# Altium schematic symbol library AirQualityMonitor.SchLib: 50 symbols (part 2 of 2)
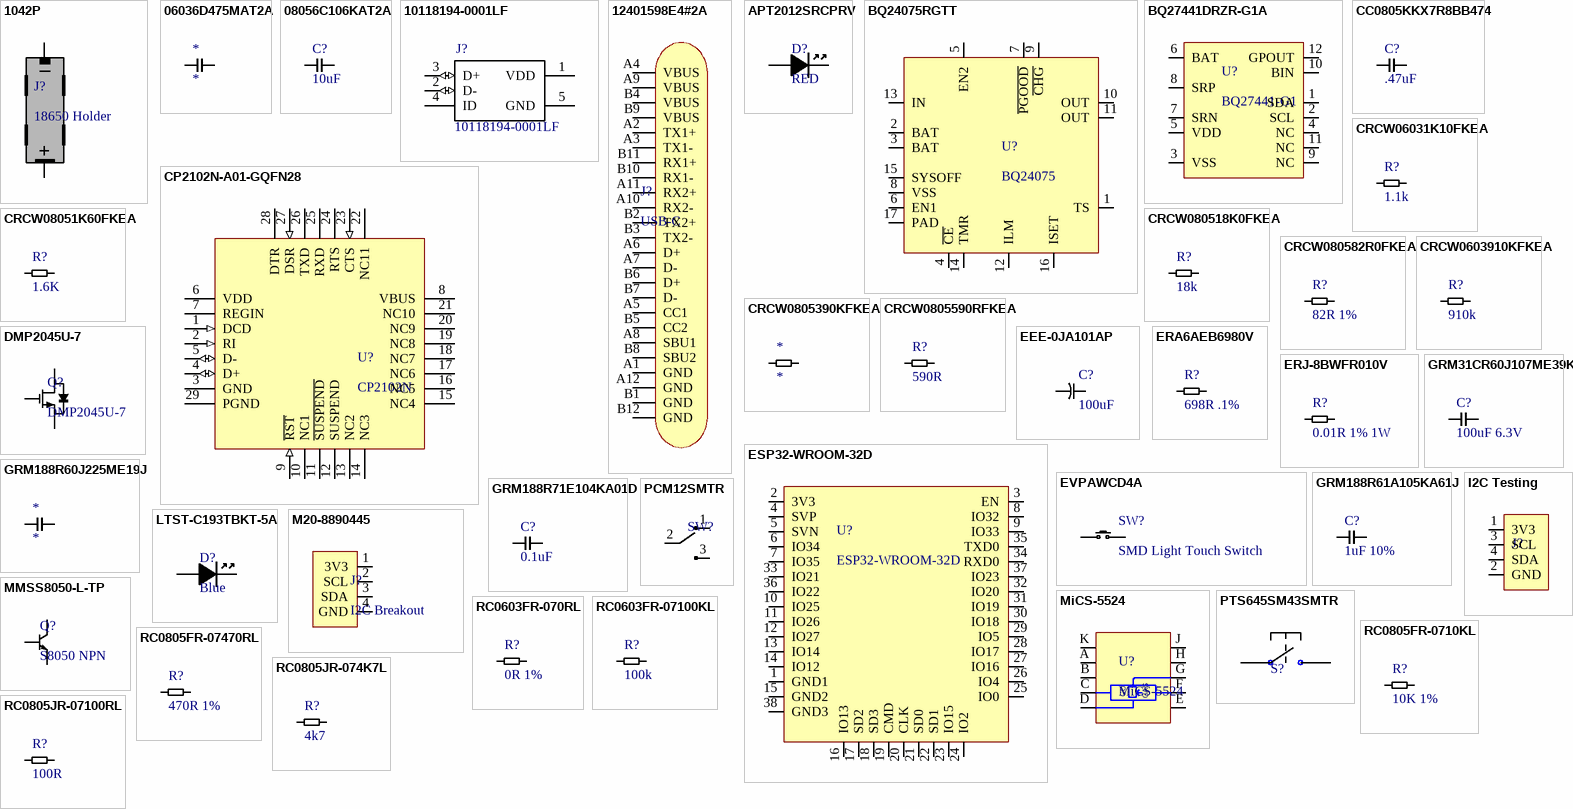
[diagram p2: symbols 1042P to RC0805JR-07100RL]

## RC0603FR-07100KL
designator R?, comment 100k
YAGEO         RC0603FR-07100KL             RES, THICK FILM, 100K, 1%, 0.1W, 0603; Resistance: 100kR; Power Rating: 100mW; Voltage Rating: 50V; Temperature Coefficient: 100ppm/°C; Working Voltage: 75V; Supplier 1: Mouser; Supplier Part Number 1: 603-RC0603FR-07100KL; Manufacturer: Yageo; Manufacturer Part Number: RC0603FR-07100KL; Stock 1: 667937; Pricing 1: 1=0.1, 10=0.018, 50=0.018, 100=0.006, 1000=0.005, 10000=0.003 (USD); Case/Package: 0603; Number of Pins: 2; Case Code (Imperial): 0603; Case Code (Metric): 1608; Min Operating Temperature: -55°C; Max Operating Temperature: 155°C; Tolerance: 1%; Packaging: Tape and Reel; Termination: SMD/SMT; Composition: Thick Film; Military Standard: Not; Number of Terminations: 2; Voltage Rating (DC): 50V; Length: 1.6mm; Height: 0.45mm; Width: 0.8mm; Depth: 0.8mm; REACH SVHC: No SVHC; Lead Free: Lead Free; ComponentLink1URL: http://www.farnell.com/datasheets/2167052.pdf; ComponentLink1Description: http://www.farnell.com/datasheets/2167052.pdf; ComponentLink2URL: http://www.farnell.com/datasheets/1868787.pdf; ComponentLink2Description: http://www.farnell.com/datasheets/1868787.pdf; ComponentLink3URL: http://www.farnell.com/datasheets/1738695.pdf; ComponentLink3Description: http://www.farnell.com/datasheets/1738695.pdf; ComponentLink4URL: http://documents.rs-components.com/techlib://itc_doclist_GB.htm?stockno=5048940; ComponentLink4Description: http://documents.rs-components.com/techlib://itc_doclist_GB.htm?stockno=5048940; ComponentLink5URL: http://www.farnell.com/datasheets/443971.pdf; ComponentLink5Description: http://www.farnell.com/datasheets/443971.pdf
footprint 0603RES
pins: 1, 2

## RC0805FR-0710KL
designator R?, comment 10K 1%
RES SMD 10K OHM 1% 1/8W 0805; Manufacturer: Yageo; Manufacturer Part Number: RC0805FR-0710KL; Resistance: 10kR; Power Rating: 125mW; Voltage Rating: 150V; Temperature Coefficient: 100ppm/°C; Supplier 1: Digi-Key; Supplier Part Number 1: 311-10.0KCRDKR-ND; Stock 1: 50767607; Pricing 1: 1=0.1, 10=0.046, 100=0.0186, 1000=0.00835, 2500=0.00725 (USD); Case/Package: 0805; Case Code (Imperial): 0805; Case Code (Metric): 2012; Min Operating Temperature: -55°C; Max Operating Temperature: 155°C; Packaging: Tape and Reel; Tolerance: 1%; Termination: SMD/SMT; Package Quantity: 1; Composition: Thick Film; Military Standard: Not; Max Power Dissipation: 125mW; Number of Terminations: 2; Features: Moisture Resistant; Length: 2mm; Height: 0.024inch; Depth: 1.25mm; Width: 0.049inch; REACH SVHC: Unknown; Lead Free: Lead Free; ComponentLink1URL: http://www.yageo.com/documents/recent/PYu-RC_Group_51_RoHS_L_9.pdf; ComponentLink1Description: http://www.yageo.com/documents/recent/PYu-RC_Group_51_RoHS_L_9.pdf; ComponentLink2URL: http://www.farnell.com/datasheets/444164.pdf; ComponentLink2Description: http://www.farnell.com/datasheets/444164.pdf; ComponentLink3URL: http://www.yageo.ru/pdf/RC0805.pdf; ComponentLink3Description: http://www.yageo.ru/pdf/RC0805.pdf
footprint 0805RES
pins: 1, 2

## RC0805FR-07470RL
designator R?, comment 470R 1%
RES SMD 470 OHM 1% 1/8W 0805; Manufacturer: Yageo; Manufacturer Part Number: RC0805FR-07470RL; Power Rating: 125mW; Voltage Rating: 150V; Temperature Coefficient: 100ppm/°C; Supplier 1: Digi-Key; Supplier Part Number 1: 311-470CRDKR-ND; Stock 1: 2436062; Pricing 1: 1=0.1, 10=0.046, 100=0.0186, 1000=0.00835, 2500=0.00725 (USD); Case/Package: 0805; Number of Pins: 2; Case Code (Metric): 2012; Case Code (Imperial): 0805; Min Operating Temperature: -55°C; Max Operating Temperature: 155°C; Resistance: 470R; Tolerance: 1%; Packaging: Tape and Reel; Composition: Thick Film; Voltage Rating (DC): 150V; Military Standard: Not; Max Power Dissipation: 125mW; Package Quantity: 1; Termination: SMD/SMT; Number of Terminations: 2; Features: Moisture Resistant; Length: 2mm; Height: 0.5mm; Depth: 1.25mm; Width: 1.25mm; Lead Pitch: 0.4mm; REACH SVHC: Unknown; Lead Free: Lead Free; ComponentLink1URL: http://www.yageo.com/documents/recent/PYu-RC_Group_51_RoHS_L_9.pdf; ComponentLink1Description: http://www.yageo.com/documents/recent/PYu-RC_Group_51_RoHS_L_9.pdf; ComponentLink2URL: http://www.farnell.com/datasheets/444164.pdf; ComponentLink2Description: http://www.farnell.com/datasheets/444164.pdf; ComponentLink3URL: http://documents.rs-components.com/techlib://itc_doclist_GB.htm?stockno=6182546; ComponentLink3Description: http://documents.rs-components.com/techlib://itc_doclist_GB.htm?stockno=6182546; ComponentLink4URL: http://www.yageo.ru/pdf/RC0805.pdf; ComponentLink4Description: http://www.yageo.ru/pdf/RC0805.pdf
footprint 0805RES
pins: 1, 2

## RC0805JR-074K7L
designator R?, comment 4k7
YAGEO         RC0805JR-074K7L             RES, THICK FILM, 4K7, 5%, 0.125W, 0805; Resistance: 4.7kR; Temperature Coefficient: 100ppm/°C; Power Rating: 125mW; Voltage Rating: 150V; Supplier 1: Digi-Key; Supplier Part Number 1: 311-4.7KARDKR-ND; Manufacturer: Yageo; Manufacturer Part Number: RC0805JR-074K7L; Stock 1: 4671769; Pricing 1: 1=0.1, 10=0.036, 100=0.0146, 1000=0.00654, 2500=0.00568 (USD); Case/Package: Molded; Contact Plating: Lead,Matte,Tin; Case Code (Imperial): 0805; Case Code (Metric): 2012; Min Operating Temperature: -55°C; Max Operating Temperature: 155°C; Tolerance: 5%; Packaging: Tape and Reel; Composition: Thick Film; Termination: SMD/SMT; Military Standard: Not; Length: 2mm; Depth: 1.25mm; Radiation Hardening: No; REACH SVHC: Unknown; Lead Free: Lead Free; ComponentLink1URL: http://www.farnell.com/datasheets/442941.pdf; ComponentLink1Description: http://www.farnell.com/datasheets/442941.pdf; ComponentLink2URL: http://www.yageo.ru/pdf/RC0805.pdf; ComponentLink2Description: http://www.yageo.ru/pdf/RC0805.pdf; ComponentLink3URL: http://www.mouser.com/ds/2/447/Yageo_08112016_RC0805-968729.pdf; ComponentLink3Description: http://www.mouser.com/ds/2/447/Yageo_08112016_RC0805-968729.pdf
footprint 0805RES
pins: 1, 2

## RC0805JR-07100RL
designator R?, comment 100R
RES, THICK FILM, 100R, 5%, 0.125W, 0805; Manufacturer: Yageo; Manufacturer Part Number: RC0805JR-07100RL; Power Rating: 125mW; Voltage Rating: 150V; Temperature Coefficient: 100ppm/°C; Supplier 1: Mouser; Supplier Part Number 1: 603-RC0805JR-07100RL; Stock 1: 497207; Pricing 1: 1=0.11, 10=0.026, 50=0.026, 100=0.009, 1000=0.007, 10000=0.004 (USD); Case/Package: 0805; Case Code (Imperial): 0805; Case Code (Metric): 2012; Contact Plating: Lead,Matte,Tin; Min Operating Temperature: -55°C; Max Operating Temperature: 155°C; Tolerance: 5%; Resistance: 100R; Packaging: Tape and Reel; Termination: SMD/SMT; Composition: Thick Film; Radiation Hardening: No; REACH SVHC: Unknown; Lead Free: Lead Free; ComponentLink1URL: http://www.farnell.com/datasheets/444164.pdf; ComponentLink1Description: http://www.farnell.com/datasheets/444164.pdf; ComponentLink2URL: http://www.farnell.com/datasheets/2167052.pdf; ComponentLink2Description: http://www.farnell.com/datasheets/2167052.pdf; ComponentLink3URL: http://www.farnell.com/datasheets/442941.pdf; ComponentLink3Description: http://www.farnell.com/datasheets/442941.pdf; ComponentLink4URL: http://www.yageo.ru/pdf/RC0805.pdf; ComponentLink4Description: http://www.yageo.ru/pdf/RC0805.pdf
footprint 0805RES
pins: 1, 2

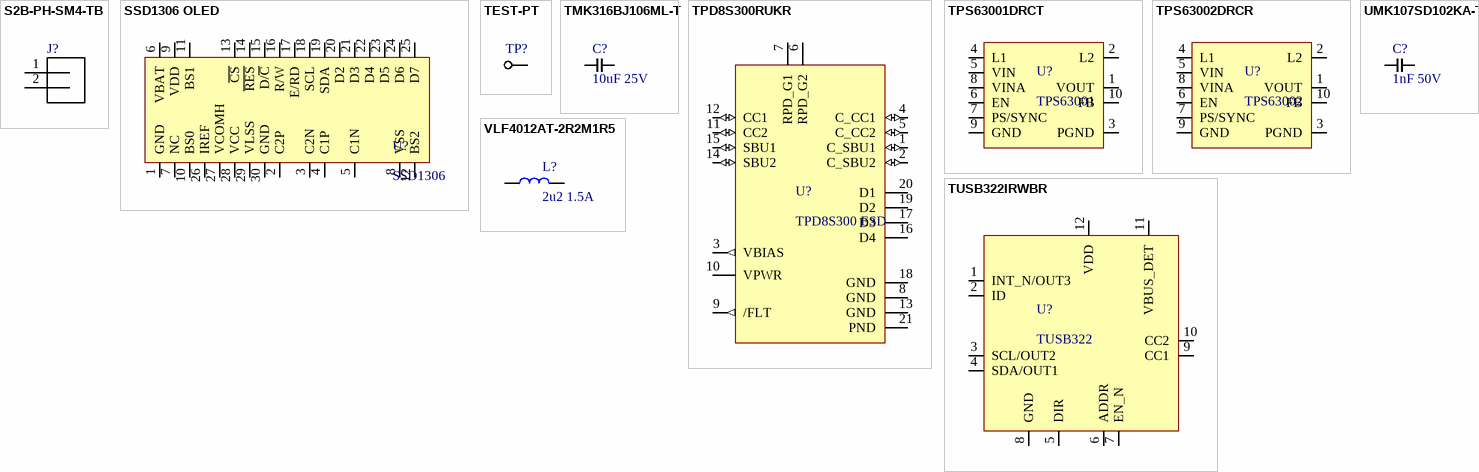
[diagram p1: symbols S2B-PH-SM4-TB to VLF4012AT-2R2M1R5]

## S2B-PH-SM4-TB
designator J?  (value not drawn)
Socket; wire-board; male; PIN: 2; 2mm; SMT; PH; 100V; 2A; -25Ã·85Â°C; MF: JST; Package: None; MP: S2B-PH-SM4-TB; Price: None; Availability: Unavailable; SnapEDA_Link: https://www.snapeda.com/parts/S2B-PH-SM4-TB/JST/view-part/?ref=snap; Value: *
footprint JST_S2B-PH-SM4-TB
pins: 1, 2

## SSD1306 OLED
designator U?, comment SSD1306
ComponentLink1Description: Reference Schematic; ComponentLink1URL: https://cdn.sparkfun.com/datasheets/LCD/Monochrome/Micro-OLED-Breakout.pdf; ComponentLink2Description: Github; ComponentLink2URL: https://github.com/sparkfun/Micro_OLED_Breakout; ComponentLink3Description: Datasheet; ComponentLink3URL: https://cdn.sparkfun.com/assets/learn_tutorials/3/0/8/SSD1306.pdf
footprint SSD1306 (OLED Display 128x64)
pins: 1 GND, 2 C2P, 3 C2N, 4 C1P, 5 C1N, 6 VBAT, 7 NC, 8 VSS, 9 VDD, 10 BS0, 11 BS1, 12 BS2, 13 ~{CS}, 14 ~{RES}, 15 D/~{C}, 16 R/W, 17 E/RD, 18 SCL, 19 SDA, 20 D2, 21 D3, 22 D4, 23 D5, 24 D6, 25 D7, 26 IREF, 27 VCOMH, 28 VCC, 29 VLSS, 30 GND

## TEST-PT
designator TP?
footprint Test point
pins: 1

## TMK316BJ106ML-T
designator C?, comment 10uF 25V
CAP CER 10UF 25V X5R 1206; Manufacturer: Taiyo Yuden; Manufacturer Part Number: TMK316BJ106ML-T; Tolerance: 10%; Supplier 1: Digi-Key; Supplier Part Number 1: 587-2259-6-ND; Stock 1: 0; Pricing 1: 1=0.34, 10=0.236, 100=0.1339, 500=0.09454, 1000=0.08271 (USD); Mount: Surface Mount; Case/Package: 1206; Number of Pins: 2; Case Code (Imperial): 1206; Case Code (Metric): 3216; Contact Plating: Nickel; Min Operating Temperature: -55°C; Max Operating Temperature: 85°C; Capacitance: 10uF; Packaging: Tape and Reel; Voltage Rating: 25V; Package Quantity: 1; Voltage Rating (DC): 25V; Termination: SMD/SMT; Voltage: 25V; Dielectric: X5R; Composition: Ceramic; Length: 3.2mm; Height: 1.6mm; Width: 1.6mm; Depth: 1.6mm; Thickness: 0.071inch; Radiation Hardening: No; REACH SVHC: Unknown; Lead Free: Lead Free; Halogen Free: Halogen Free; ComponentLink1URL: https://www.yuden.co.jp/productdata/catalog/mlcc01_e.pdf; ComponentLink1Description: https://www.yuden.co.jp/productdata/catalog/mlcc01_e.pdf; ComponentLink2URL: http://www.farnell.com/datasheets/1481447.pdf; ComponentLink2Description: http://www.farnell.com/datasheets/1481447.pdf; ComponentLink3URL: http://www.farnell.com/datasheets/746258.pdf; ComponentLink3Description: http://www.farnell.com/datasheets/746258.pdf
footprint 1206MLCC
pins: 1, 2

## TPD8S300RUKR
designator U?, comment TPD8S300 ESD
SURGE SUPP 8VC 2-CIRCUIT 20WQFN; Manufacturer: Texas Instruments; Manufacturer Part Number: TPD8S300RUKR; Capacitance: 1.5pF; Interface: USB; Supplier 1: Mouser; Supplier Part Number 1: 595-TPD8S300RUKR; Stock 1: 24813; Pricing 1: 1=2.56, 10=2.17, 50=2.17, 100=1.74, 1000=1.26, 10000=1.13 (USD); Min Operating Temperature: -40°C; Max Operating Temperature: 125°C; Lead Free: Lead Free; ComponentLink1Description: Datasheet; ComponentLink1URL: http://www.ti.com/lit/ds/symlink/tpd8s300.pdf
footprint QFN40P300X300X80-21N
pins: 1 C_SBU1 (io), 2 C_SBU2 (io), 3 VBIAS (out), 4 C_CC1 (io), 5 C_CC2 (io), 6 RPD_G2, 7 RPD_G1, 8 GND, 9 /FLT (out), 10 VPWR, 11 CC2 (io), 12 CC1 (io), 13 GND, 14 SBU2 (io), 15 SBU1 (io), 16 D4, 17 D3, 18 GND, 19 D2, 20 D1, 21 PND

## TPS63001DRCT
designator U?, comment TPS63001
Conv DC-DC Single Non-Inv/Inv/Step Up/Step Down 1.8V to 5.5V 10-Pin VSON EP T/R; Manufacturer: Texas Instruments; Manufacturer Part Number: TPS63001DRCT; Number of Outputs: 1; Output Voltage: 3.3V; Efficiency: 96%; Output Current: 1.2A; Switching Frequency: 1.5MHz; Synchronous Rectifier: Yes; Quiescent Current: 30uA; Topology: Buck-Boost; Output Type: Fixed; Output Configuration: Positive; Supplier 1: Mouser; Supplier Part Number 1: 595-TPS63001DRCT; Stock 1: 4204; Pricing 1: 1=2.53, 10=2.15, 50=2.15, 100=1.73, 1000=1.25, 10000=1.12 (USD); Number of Pins: 10; Weight: 0.000921oz; Contact Plating: Gold; Min Operating Temperature: -40°C; Max Operating Temperature: 85°C; Packaging: Tape and Reel; Package Quantity: 250; Max Output Current: 1.2A; Max Input Voltage: 5.5V; Min Input Voltage: 1.8V; Min Output Voltage: 3.3V; Max Output Voltage: 3.3V; Nominal Output Voltage: 3.3V; Frequency: 1.5MHz; Min Supply Voltage: 1.8V; Max Supply Voltage: 5.5V; Termination: SMD/SMT; Length: 3mm; Height: 0.9mm; Width: 3mm; Radiation Hardening: No; REACH SVHC: No SVHC; Lead Free: Lead Free; ComponentLink1URL: http://www.ti.com/lit/ds/symlink/tps63001.pdf; ComponentLink1Description: http://www.ti.com/lit/ds/symlink/tps63001.pdf; ComponentLink2URL: http://www.farnell.com/datasheets/1764456.pdf; ComponentLink2Description: http://www.farnell.com/datasheets/1764456.pdf; ComponentLink3URL: http://www.ti.com/general/docs/lit/getliterature.tsp?genericPartNumber=TPS63002&&fileType=pdf; ComponentLink3Description: http://www.ti.com/general/docs/lit/getliterature.tsp?genericPartNumber=TPS63002&&fileType=pdf; ComponentLink4URL: https://www.verical.com/server-webapp/html/getDatasheet?partID=188363; ComponentLink4Description: https://www.verical.com/server-webapp/html/getDatasheet?partID=188363
footprint SON50P300X300X100-11N
pins: 1 VOUT, 2 L2, 3 PGND, 4 L1, 5 VIN, 6 EN, 7 PS/SYNC, 8 VINA, 9 GND, 10 FB

## TPS63002DRCR
designator U?, comment TPS63002
IC REG BUCK BOOST 5V 1.6A 10SON; Manufacturer: Texas Instruments; Manufacturer Part Number: TPS63002DRCR; Number of Outputs: 1; Output Current: 1.2A; Efficiency: 96%; Switching Frequency: 1.5MHz; Max Input Voltage: 5.5V; Min Input Voltage: 1.8V; Synchronous Rectifier: Yes; Quiescent Current: 30uA; Topology: Buck-Boost; Output Type: Fixed; Supplier 1: Mouser; Supplier Part Number 1: 595-TPS63002DRCR; Stock 1: 3675; Pricing 1: 1=2.2, 10=1.87, 50=1.87, 100=1.5, 1000=1.09, 10000=0.973 (USD); Number of Pins: 10; Weight: 0.000921oz; Contact Plating: Gold; Min Operating Temperature: -40°C; Max Operating Temperature: 85°C; Output Voltage: 5V; Packaging: Tape and Reel; Package Quantity: 1; Nominal Output Voltage: 5V; Max Output Current: 1.2A; Max Output Voltage: 5V; Min Output Voltage: 5V; Operating Supply Voltage: 5.5V; Radiation Hardening: No; REACH SVHC: No SVHC; Lead Free: Lead Free; ComponentLink1URL: http://www.farnell.com/datasheets/1854797.pdf; ComponentLink1Description: http://www.farnell.com/datasheets/1854797.pdf; ComponentLink2URL: http://www.ti.com/lit/ds/symlink/tps63001.pdf; ComponentLink2Description: http://www.ti.com/lit/ds/symlink/tps63001.pdf; ComponentLink3URL: http://focus.ti.com/lit/ds/symlink/tps63001.pdf; ComponentLink3Description: http://focus.ti.com/lit/ds/symlink/tps63001.pdf; ComponentLink4URL: http://www.ti.com/general/docs/lit/getliterature.tsp?genericPartNumber=TPS63002&&fileType=pdf; ComponentLink4Description: http://www.ti.com/general/docs/lit/getliterature.tsp?genericPartNumber=TPS63002&&fileType=pdf
footprint SON50P300X300X100-11N
pins: 1 VOUT, 2 L2, 3 PGND, 4 L1, 5 VIN, 6 EN, 7 PS/SYNC, 8 VINA, 9 GND, 10 FB

## TUSB322IRWBR
designator U?, comment TUSB322
USB Interface, Host / Peripheral Controller, USB 1.0, 1.1, 4.5 V, 5.5 V, X2QFN, 12 Pins; Manufacturer: Texas Instruments; Manufacturer Part Number: TUSB322IRWBR; Min Supply Voltage: 4.5V; Max Supply Voltage: 5.5V; Number of Ports: 1; USB Standard: USB 1.0; Supplier 1: Mouser; Supplier Part Number 1: 595-TUSB322IRWBR; Stock 1: 2739; Pricing 1: 1=2.34, 10=1.99, 50=1.99, 100=1.59, 1000=1.15, 10000=1.04 (USD); Mount: Surface Mount; Number of Pins: 12; Min Operating Temperature: -40°C; Max Operating Temperature: 85°C; Packaging: Cut Tape; REACH SVHC: No SVHC; Lead Free: Lead Free
footprint TUSB322IRWBR
pins: 1 INT_N/OUT3, 2 ID, 3 SCL/OUT2, 4 SDA/OUT1, 5 DIR, 6 ADDR, 7 EN_N, 8 GND, 9 CC1, 10 CC2, 11 VBUS_DET, 12 VDD

## UMK107SD102KA-T
designator C?, comment 1nF 50V
CAP CER 1000PF 50V 0603; Manufacturer: Taiyo Yuden; Manufacturer Part Number: UMK107SD102KA-T; Dielectric Material: Ceramic; Tolerance: 10%; Supplier 1: Digi-Key; Supplier Part Number 1: 587-1070-6-ND; Stock 1: 4000; Pricing 1: 1=0.36, 10=0.252, 100=0.1509, 500=0.1132, 1000=0.09559 (USD); Mount: Surface Mount; Case/Package: 0603; Number of Pins: 2; Case Code (Imperial): 0603; Case Code (Metric): 1608; Min Operating Temperature: -55°C; Max Operating Temperature: 125°C; Capacitance: 1nF; Packaging: Tape and Reel; Voltage Rating: 50V; Package Quantity: 1; Voltage Rating (DC): 50V; Termination: SMD/SMT; Voltage: 50V; Length: 1.6mm; Height: 0.8mm; Width: 0.8mm; Depth: 0.8mm; Thickness: 0.035inch; Radiation Hardening: No; Lead Free: Lead Free; Halogen Free: Halogen Free; ComponentLink1URL: http://www.yuden.co.jp/productdata/catalog/en/mlcc07_e.pdf; ComponentLink1Description: http://www.yuden.co.jp/productdata/catalog/en/mlcc07_e.pdf; ComponentLink2URL: http://documents.rs-components.com/techlib://itc_doclist_GB.htm?stockno=7587377; ComponentLink2Description: http://documents.rs-components.com/techlib://itc_doclist_GB.htm?stockno=7587377; ComponentLink3URL: http://ds.yuden.co.jp/TYCOMPAS/ut/detail.do?productNo=UMK107SD102KA-T&fileName=UMK107SD102KA-T_SS&mode=specSheetDownload; ComponentLink3Description: http://ds.yuden.co.jp/TYCOMPAS/ut/detail.do?productNo=UMK107SD102KA-T&fileName=UMK107SD102KA-T_SS&mode=specSheetDownload
footprint 0603MLCC
pins: 1, 2

## VLF4012AT-2R2M1R5
designator L?, comment 2u2 1.5A
FIXED IND 2.2UH 1.5A 87 MOHM SMD; Manufacturer: TDK; Manufacturer Part Number: VLF4012AT-2R2M1R5; Core Material: Ferrite; Tolerance: 20%; Shielding: Shielded; DC Resistance (DCR): 87mR; Test Frequency: 100kHz; Supplier 1: Digi-Key; Supplier Part Number 1: 445-3233-1-ND; Stock 1: 94427; Pricing 1: 1=0.83, 10=0.725, 100=0.5175, 500=0.4347 (USD); Mount: Surface Mount; Case/Package: Nonstandard; Number of Pins: 2; Min Operating Temperature: -40°C; Max Operating Temperature: 105°C; Packaging: Tape and Reel; Inductance Tolerance: 20%; Package Quantity: 1000; Current Rating: 1.5A; Saturation Current: 1.5A; Composition: Wirewound; Inductance: 2.2uh; Max DC Current: 1.5A; Termination: SMD/SMT; DC Current: 1.5A; Military Standard: Not; RMS Current (Irms): 1.5A; Length: 0.146inch; Height: 1.2mm; Width: 0.138inch; Height - Seated (Max): 0.047inch; Depth: 3.8mm; Radiation Hardening: No; REACH SVHC: No SVHC; Lead Free: Lead Free; ComponentLink1URL: http://www.farnell.com/datasheets/333336.pdf; ComponentLink1Description: http://www.farnell.com/datasheets/333336.pdf; ComponentLink2URL: http://www.onlinecomponents.com/productFiles/mf-TDK/e531_vlf4012a.pdf; ComponentLink2Description: http://www.onlinecomponents.com/productFiles/mf-TDK/e531_vlf4012a.pdf
footprint VLF4012AT-2R2M1R5
pins: 1, 2